# EAGLE library part USB_A_SMT (library Connetors_ACTIVE14)
SMT TYPE USB A TYPE CONNECTOR
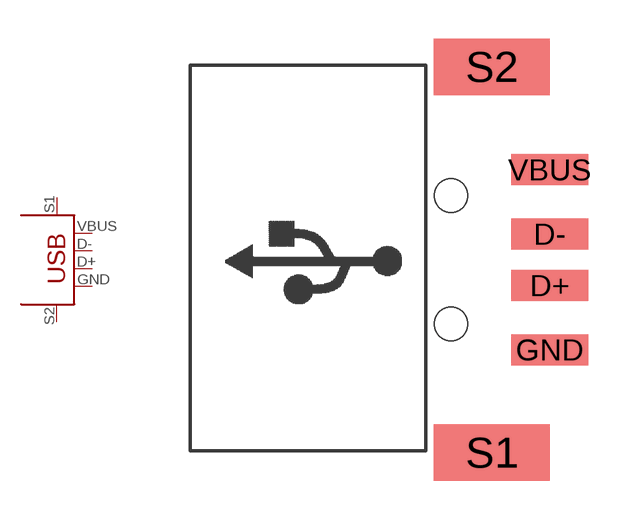
[diagram p1: symbol with the pads of USB_A_SMT; footprint USB_A_SMT]

Designator prefix -

## USB_A_SMT1 (MFG: HOYATO_CONNECTORS; MFG_PN: UBSARSM-04-XX-XX; PRICE_USD: 0.098)  [USB_A_SMT]
D+  D+
D-  D-
GND  GND
S1  S1
S2  S2
VBUS  VBUS

## Footprint USB_A_SMT (pad centres in mm)
smd 3 x 1.2: D+ 0,-4.5; D- 0,-2.5; GND 0,-7; VBUS 0,0
smd 4.5 x 2.2: S1 -2.25,-11; S2 -2.25,4
hole 1.3 at -3.84,-1
hole 1.3 at -3.84,-6